# EAGLE library part M04X5 (library Connectors)
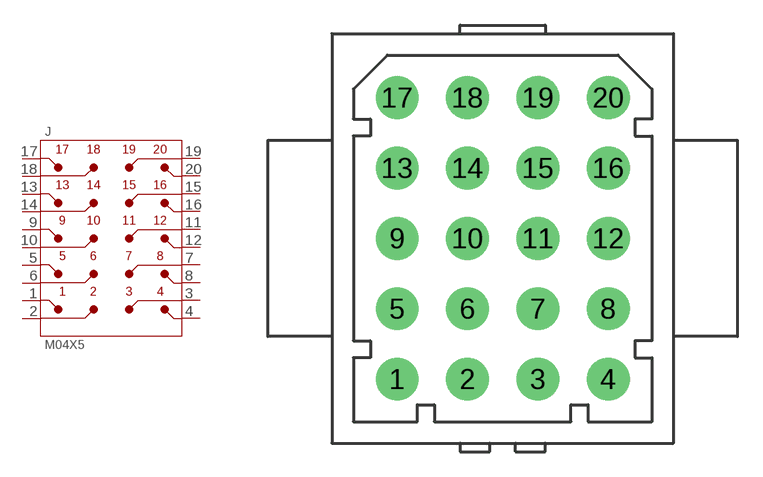
[diagram p11: symbol with the pads of M04X5; footprint M04X5]

Designator prefix J

## M04X5-SOLENOID  [M04X5]
1  1
2  2
3  3
4  4
5  5
6  6
7  7
8  8
9  9
10  10
11  11
12  12
13  13
14  14
15  15
16  16
17  17
18  18
19  19
20  20

## Footprint M04X5 (pad centres in mm)
drill 1.397 pad 2.54: 1 -6.287,-8.382; 2 -2.095,-8.382; 3 2.095,-8.382; 4 6.287,-8.382; 5 -6.287,-4.191; 6 -2.095,-4.191; 7 2.095,-4.191; 8 6.287,-4.191; 9 -6.287,0; 10 -2.095,0; 11 2.095,0; 12 6.287,0; 13 -6.287,4.191; 14 -2.095,4.191; 15 2.095,4.191; 16 6.287,4.191; 17 -6.287,8.382; 18 -2.095,8.382; 19 2.095,8.382; 20 6.287,8.382